# Altium schematic symbol library Storage.SchLib: 11 symbols
Pins are listed as number, name and electrical type; pins without a type are passive.

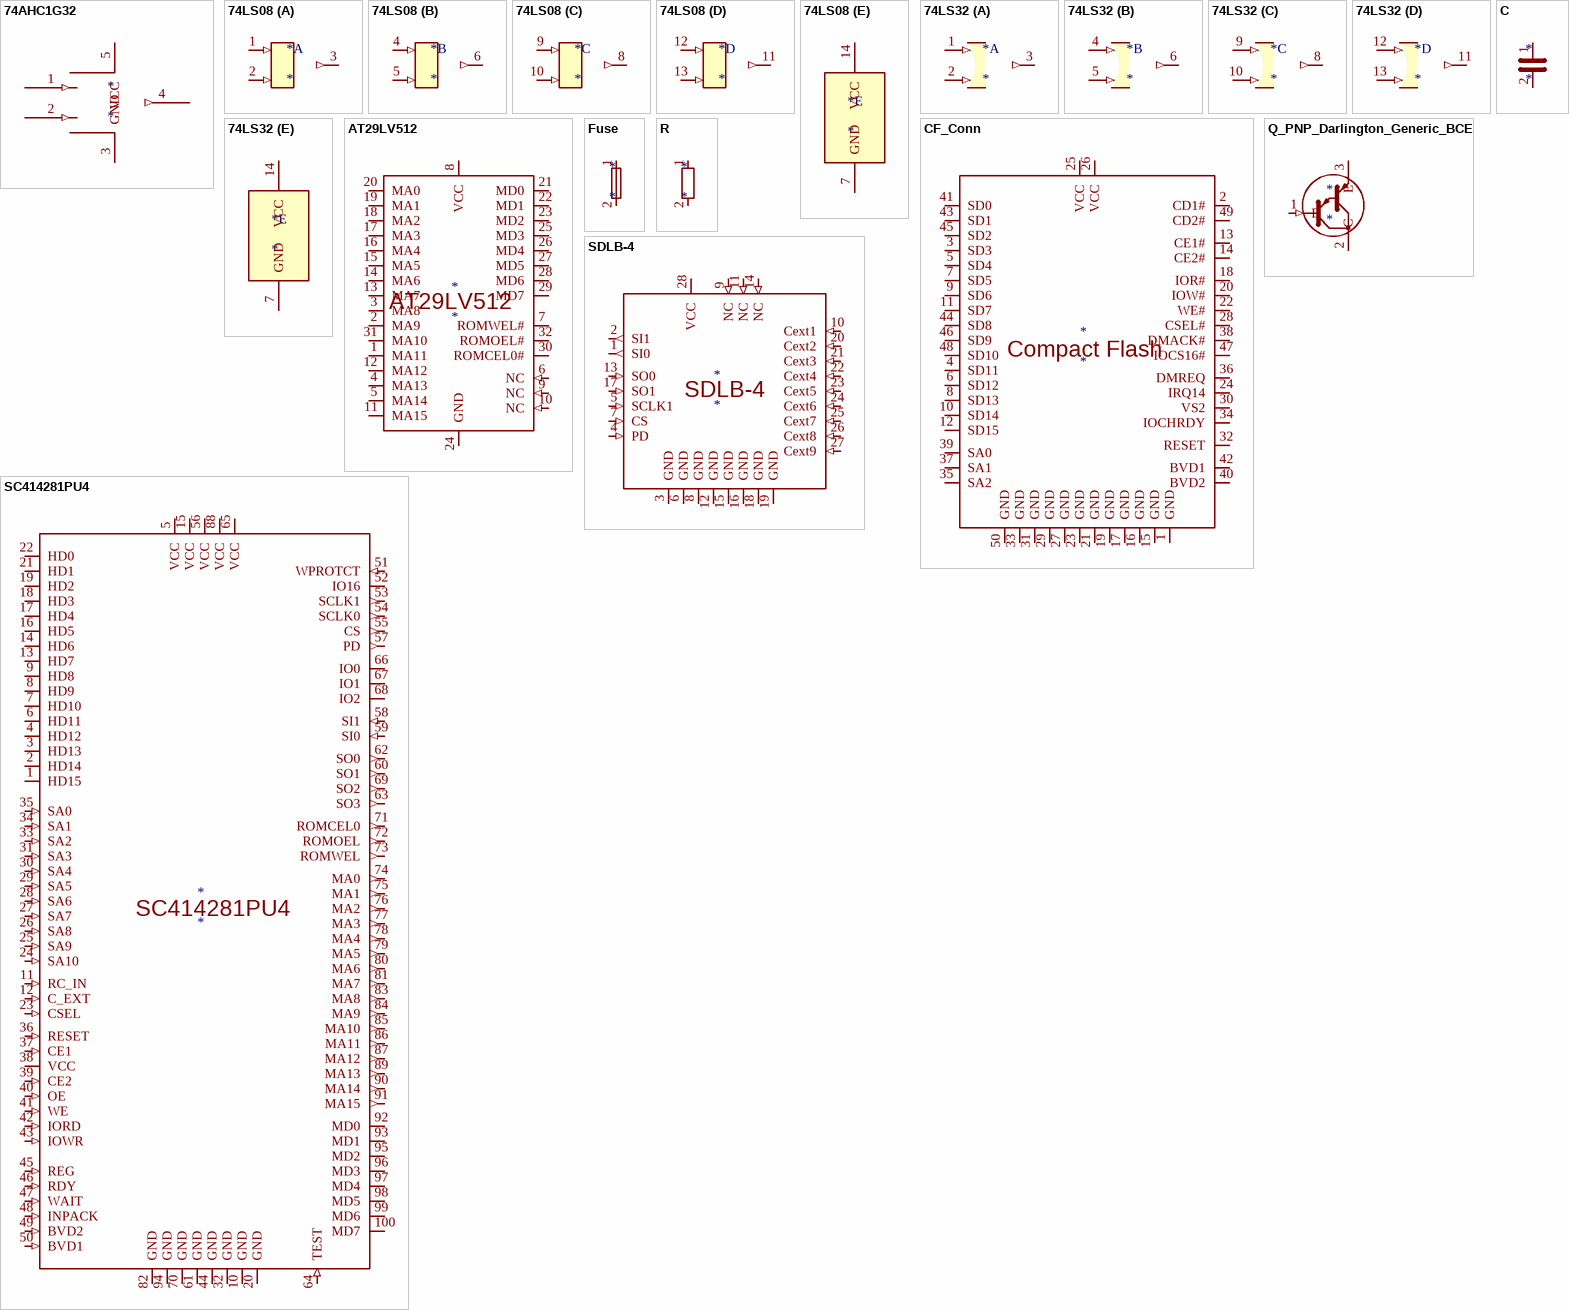
[diagram p0: symbols 74AHC1G32 to SDLB-4]

## 74AHC1G32
designator *
pins: 1 (in), 2 (in), 3 GND (power), 4 (out), 5 VCC (power)

## 74LS08
designator *
part A pins: 1 (in), 2 (in), 3 (out)
part B pins: 4 (in), 5 (in), 6 (out)
part C pins: 8 (out), 9 (in), 10 (in)
part D pins: 11 (out), 12 (in), 13 (in)
part E pins: 7 GND (power), 14 VCC (power)
1 alternate drawing of the same symbol

## 74LS32
designator *
part A pins: 1 (in), 2 (in), 3 (out)
part B pins: 4 (in), 5 (in), 6 (out)
part C pins: 8 (out), 9 (in), 10 (in)
part D pins: 11 (out), 12 (in), 13 (in)
part E pins: 7 GND (power), 14 VCC (power)
1 alternate drawing of the same symbol

## AT29LV512
designator *
pins: 1 MA11 (io), 2 MA9 (io), 3 MA8 (io), 4 MA13 (io), 5 MA14 (io), 6 NC (in), 7 ROMWEL# (io), 8 VCC (power), 9 NC (in), 10 NC (in), 11 MA15 (io), 12 MA12 (io), 13 MA7 (io), 14 MA6 (io), 15 MA5 (io), 16 MA4 (io), 17 MA3 (io), 18 MA2 (io), 19 MA1 (io), 20 MA0 (io), 21 MD0 (io), 22 MD1 (io), 23 MD2 (io), 24 GND (power), 25 MD3 (io), 26 MD4 (io), 27 MD5 (io), 28 MD6 (io), 29 MD7 (io), 30 ROMCEL0# (io), 31 MA10 (io), 32 ROMOEL# (io)

## C
designator *
pins: 1, 2

## CF_Conn
designator *
pins: 1 GND (power), 2 CD1# (io), 3 SD3 (io), 4 SD11 (io), 5 SD4 (io), 6 SD12 (io), 7 SD5 (io), 8 SD13 (io), 9 SD6 (io), 10 SD14 (io), 11 SD7 (io), 12 SD15 (io), 13 CE1# (io), 14 CE2# (io), 15 GND (power), 16 GND (power), 17 GND (power), 18 IOR# (io), 19 GND (power), 20 IOW# (io), 21 GND (power), 22 WE# (io), 23 GND (power), 24 IRQ14 (io), 25 VCC (power), 26 VCC (power), 27 GND (power), 28 CSEL# (io), 29 GND (power), 30 VS2 (io), 31 GND (power), 32 RESET (io), 33 GND (power), 34 IOCHRDY (io), 35 SA2 (io), 36 DMREQ (io), 37 SA1 (io), 38 DMACK# (io), 39 SA0 (io), 40 BVD2 (io), 41 SD0 (io), 42 BVD1 (io), 43 SD1 (io), 44 SD8 (io), 45 SD2 (io), 46 SD9 (io), 47 IOCS16# (io), 48 SD10 (io), 49 CD2# (io), 50 GND (power)
text: Compact Flash

## Fuse
designator *
pins: 1, 2

## Q_PNP_Darlington_Generic_BCE
designator *
pins: 1 B (in), 2 C, 3 E

## R
designator *
pins: 1, 2

## SC414281PU4
designator *
pins: 1 HD15 (io), 2 HD14 (io), 3 HD13 (io), 4 HD12 (io), 5 VCC (power), 6 HD11 (io), 7 HD10 (io), 8 HD9 (io), 9 HD8 (io), 10 GND (power), 11 RC_IN (in), 12 C_EXT (in), 13 HD7 (io), 14 HD6 (io), 15 VCC (power), 16 HD5 (io), 17 HD4 (io), 18 HD3 (io), 19 HD2 (io), 20 GND (power), 21 HD1 (io), 22 HD0 (io), 23 CSEL (in), 24 SA10 (in), 25 SA9 (in), 26 SA8 (in), 27 SA7 (in), 28 SA6 (in), 29 SA5 (in), 30 SA4 (in), 31 SA3 (in), 32 GND (power), 33 SA2 (in), 34 SA1 (in), 35 SA0 (in), 36 RESET (in), 37 CE1 (in), 38 VCC (power), 39 CE2 (in), 40 OE (in), 41 WE (in), 42 IORD (in), 43 IOWR (in), 44 GND (power), 45 REG (in), 46 RDY (in), 47 WAIT (in), 48 INPACK (in), 49 BVD2 (in), 50 BVD1 (in), 51 WPROTCT (in), 52 IO16 (io), 53 SCLK1 (out), 54 SCLK0 (out), 55 CS (out), 56 VCC (power), 57 PD (out), 58 SI1 (in), 59 SI0 (in), 60 SO1 (out), 61 GND (power), 62 SO0 (out), 63 SO3 (out), 64 TEST (in), 65 VCC (power), 66 IO0 (io), 67 IO1 (io), 68 IO2 (io), 69 SO2 (out), 70 GND (power), 71 ROMCEL0 (out), 72 ROMOEL (out), 73 ROMWEL (out), 74 MA0 (out), 75 MA1 (out), 76 MA2 (out), 77 MA3 (out), 78 MA4 (out), 79 MA5 (out), 80 MA6 (out), 81 MA7 (out), 82 GND (power), 83 MA8 (out), 84 MA9 (out), 85 MA10 (out), 86 MA11 (out), 87 MA12 (out), 88 VCC (power), 89 MA13 (out), 90 MA14 (out), 91 MA15 (out), 92 MD0 (io), 93 MD1 (io), 94 GND (power), 95 MD2 (io), 96 MD3 (io), 97 MD4 (io), 98 MD5 (io), 99 MD6 (io), 100 MD7 (io)

## SDLB-4
designator *
pins: 1 SI0 (out), 2 SI1 (out), 3 GND (power), 4 PD (in), 5 SCLK1 (in), 6 GND (power), 7 CS (in), 8 GND (power), 9 NC (in), 10 Cext1 (in), 11 NC (in), 12 GND (power), 13 SO0 (in), 14 NC (in), 15 GND (power), 16 GND (power), 17 SO1 (in), 18 GND (power), 19 GND (power), 20 Cext2 (in), 21 Cext3 (in), 22 Cext4 (in), 23 Cext5 (in), 24 Cext6 (in), 25 Cext7 (in), 26 Cext8 (in), 27 Cext9 (in), 28 VCC (power)